# EAGLE library part GM02SP (library GM02SP)
MONARCH 2 LTE M/NB-IOT WITH GNSS Source: Datasheet <https://fccid.io/2AAGMGM02S/User-Manual/User-manual-v2-5084773.pdf>
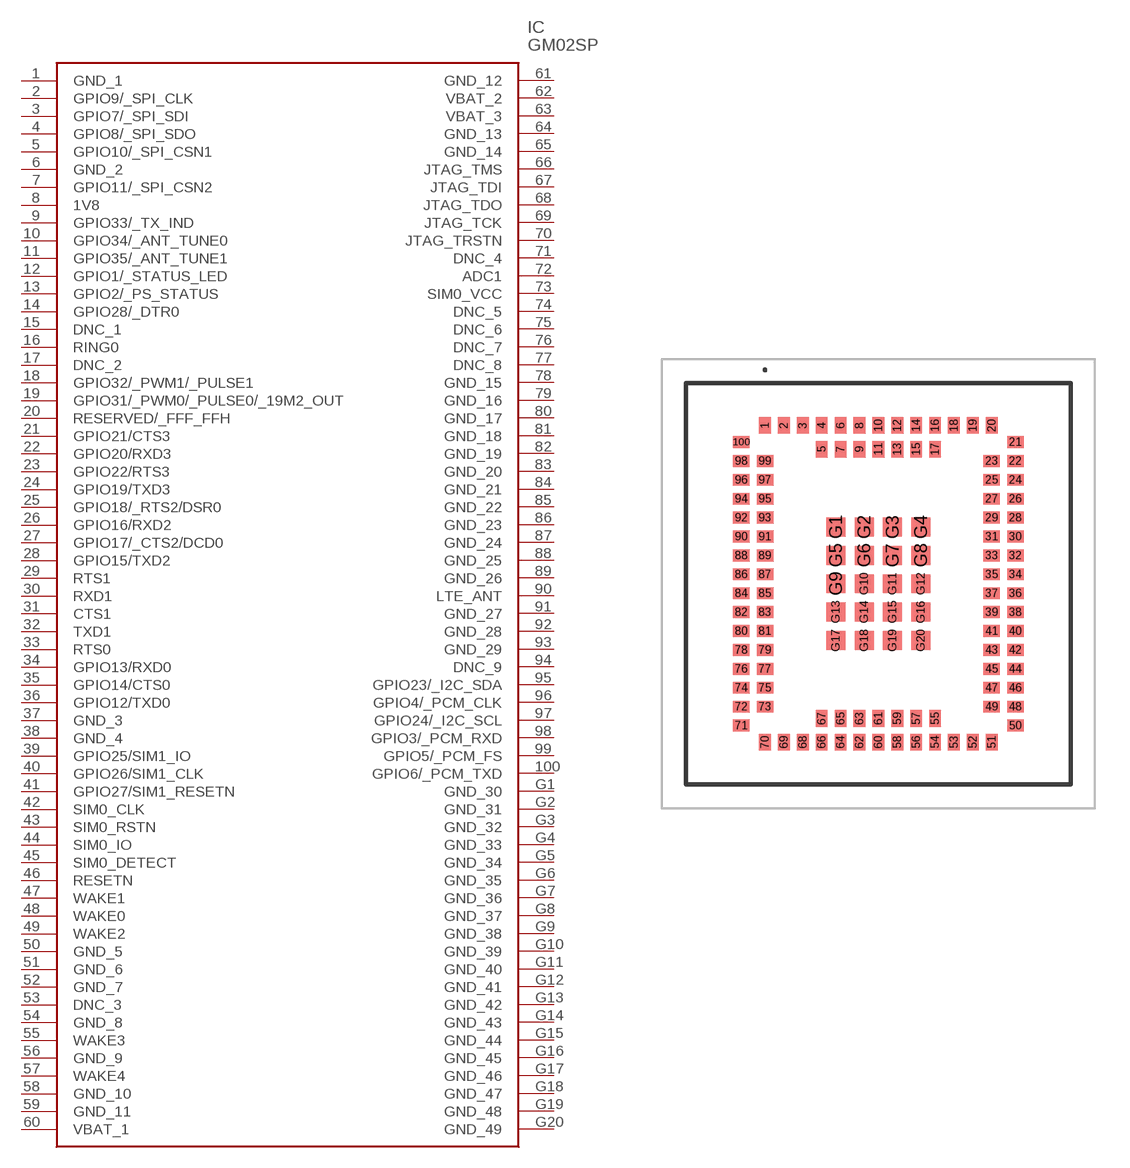
[diagram p0: symbol with the pads of GM02SP; footprint GM02SP]

Designator prefix IC

## GM02SP (Description: MONARCH 2 LTE M/NB-IOT WITH GNSS; Height: mm; Manufacturer_Name: Sequans; Manufacturer_Part_Number: GM02SP; Mouser_Part_Number: 440-GM02SP; Mouser_Price-Stock: https://www.mouser.co.uk/ProductDetail/Sequans/GM02SP?qs=1Kr7Jg1SGW%252BxgXvT7tnerA%3D%3D)  [GM02SP]
1  GND_1
2  GPIO9/_SPI_CLK
3  GPIO7/_SPI_SDI
4  GPIO8/_SPI_SDO
5  GPIO10/_SPI_CSN1
6  GND_2
7  GPIO11/_SPI_CSN2
8  1V8
9  GPIO33/_TX_IND
10  GPIO34/_ANT_TUNE0
11  GPIO35/_ANT_TUNE1
12  GPIO1/_STATUS_LED
13  GPIO2/_PS_STATUS
14  GPIO28/_DTR0
15  DNC_1
16  RING0
17  DNC_2
18  GPIO32/_PWM1/_PULSE1
19  GPIO31/_PWM0/_PULSE0/_19M2_OUT
20  RESERVED/_FFF_FFH
21  GPIO21/CTS3
22  GPIO20/RXD3
23  GPIO22/RTS3
24  GPIO19/TXD3
25  GPIO18/_RTS2/DSR0
26  GPIO16/RXD2
27  GPIO17/_CTS2/DCD0
28  GPIO15/TXD2
29  RTS1
30  RXD1
31  CTS1
32  TXD1
33  RTS0
34  GPIO13/RXD0
35  GPIO14/CTS0
36  GPIO12/TXD0
37  GND_3
38  GND_4
39  GPIO25/SIM1_IO
40  GPIO26/SIM1_CLK
41  GPIO27/SIM1_RESETN
42  SIM0_CLK
43  SIM0_RSTN
44  SIM0_IO
45  SIM0_DETECT
46  RESETN
47  WAKE1
48  WAKE0
49  WAKE2
50  GND_5
51  GND_6
52  GND_7
53  DNC_3
54  GND_8
55  WAKE3
56  GND_9
57  WAKE4
58  GND_10
59  GND_11
60  VBAT_1
61  GND_12
62  VBAT_2
63  VBAT_3
64  GND_13
65  GND_14
66  JTAG_TMS
67  JTAG_TDI
68  JTAG_TDO
69  JTAG_TCK
70  JTAG_TRSTN
71  DNC_4
72  ADC1
73  SIM0_VCC
74  DNC_5
75  DNC_6
76  DNC_7
77  DNC_8
78  GND_15
79  GND_16
80  GND_17
81  GND_18
82  GND_19
83  GND_20
84  GND_21
85  GND_22
86  GND_23
87  GND_24
88  GND_25
89  GND_26
90  LTE_ANT
91  GND_27
92  GND_28
93  GND_29
94  DNC_9
95  GPIO23/_I2C_SDA
96  GPIO4/_PCM_CLK
97  GPIO24/_I2C_SCL
98  GPIO3/_PCM_RXD
99  GPIO5/_PCM_FS
100  GPIO6/_PCM_TXD
G1  GND_30
G2  GND_31
G3  GND_32
G4  GND_33
G5  GND_34
G6  GND_35
G7  GND_36
G8  GND_37
G9  GND_38
G10  GND_39
G11  GND_40
G12  GND_41
G13  GND_42
G14  GND_43
G15  GND_44
G16  GND_45
G17  GND_46
G18  GND_47
G19  GND_48
G20  GND_49

## Footprint GM02SP (pad centres in mm)
GM02SP-2
smd 0.5 x 0.7: 1 -4.8,6.7; 2 -4,6.7; 3 -3.2,6.7; 4 -2.4,6.7; 5 -2.4,5.7; 6 -1.6,6.7; 7 -1.6,5.7; 8 -0.8,6.7; 9 -0.8,5.7; 10 0,6.7; 11 0,5.7; 12 0.8,6.7; 13 0.8,5.7; 14 1.6,6.7; 15 1.6,5.7; 16 2.4,6.7; 17 2.4,5.7; 18 3.2,6.7; 19 4,6.7; 20 4.8,6.7; 51 4.8,-6.7; 52 4,-6.7; 53 3.2,-6.7; 54 2.4,-6.7; 55 2.4,-5.7; 56 1.6,-6.7; 57 1.6,-5.7; 58 0.8,-6.7; 59 0.8,-5.7; 60 0,-6.7; 61 0,-5.7; 62 -0.8,-6.7; 63 -0.8,-5.7; 64 -1.6,-6.7; 65 -1.6,-5.7; 66 -2.4,-6.7; 67 -2.4,-5.7; 68 -3.2,-6.7; 69 -4,-6.7; 70 -4.8,-6.7
smd 0.7 x 0.5: 21 5.8,6; 22 5.8,5.2; 23 4.8,5.2; 24 5.8,4.4; 25 4.8,4.4; 26 5.8,3.6; 27 4.8,3.6; 28 5.8,2.8; 29 4.8,2.8; 30 5.8,2; 31 4.8,2; 32 5.8,1.2; 33 4.8,1.2; 34 5.8,0.4; 35 4.8,0.4; 36 5.8,-0.4; 37 4.8,-0.4; 38 5.8,-1.2; 39 4.8,-1.2; 40 5.8,-2; 41 4.8,-2; 42 5.8,-2.8; 43 4.8,-2.8; 44 5.8,-3.6; 45 4.8,-3.6; 46 5.8,-4.4; 47 4.8,-4.4; 48 5.8,-5.2; 49 4.8,-5.2; 50 5.8,-6; 71 -5.8,-6; 72 -5.8,-5.2; 73 -4.8,-5.2; 74 -5.8,-4.4; 75 -4.8,-4.4; 76 -5.8,-3.6; 77 -4.8,-3.6; 78 -5.8,-2.8; 79 -4.8,-2.8; 80 -5.8,-2; 81 -4.8,-2; 82 -5.8,-1.2; 83 -4.8,-1.2; 84 -5.8,-0.4; 85 -4.8,-0.4; 86 -5.8,0.4; 87 -4.8,0.4; 88 -5.8,1.2; 89 -4.8,1.2; 90 -5.8,2; 91 -4.8,2; 92 -5.8,2.8; 93 -4.8,2.8; 94 -5.8,3.6; 95 -4.8,3.6; 96 -5.8,4.4; 97 -4.8,4.4; 98 -5.8,5.2; 99 -4.8,5.2; 100 -5.8,6
smd 0.8 x 0.8: G1 -1.8,2.4; G2 -0.6,2.4; G3 0.6,2.4; G4 1.8,2.4; G5 -1.8,1.2; G6 -0.6,1.2; G7 0.6,1.2; G8 1.8,1.2; G9 -1.8,0; G10 -0.6,0; G11 0.6,0; G12 1.8,0; G13 -1.8,-1.2; G14 -0.6,-1.2; G15 0.6,-1.2; G16 1.8,-1.2; G17 -1.8,-2.4; G18 -0.6,-2.4; G19 0.6,-2.4; G20 1.8,-2.4